# Altium footprint library Crazy_PCB.PcbLib: 126 footprints (part 4 of 8)
Each footprint in its own frame and in the unit in brackets; x right, y up, seen from the top. Pads: shape width x height; smd on the part's side, far side on the other; paste and mask are expansions set on the pad; w line width, h text height; cw(c..) or ccw(c..) is an arc to the next point about the centre after c.
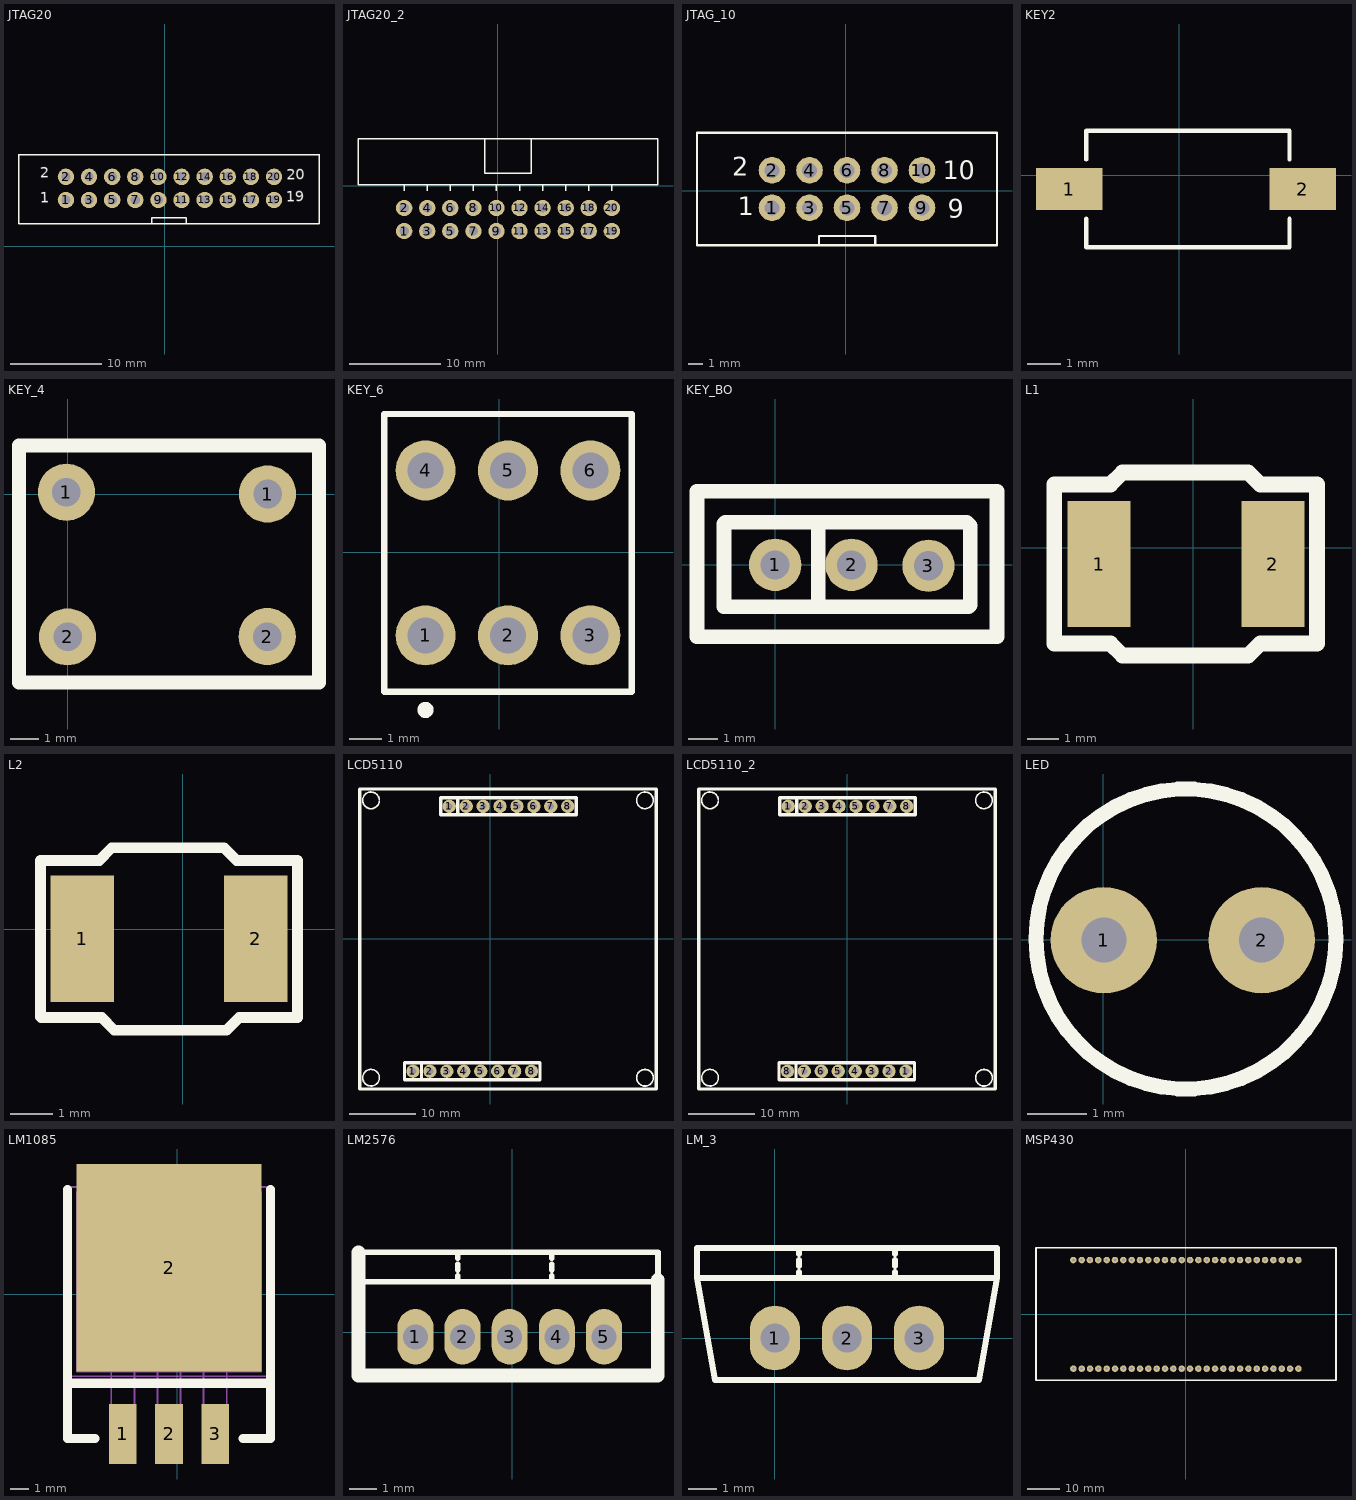
[diagram p3: the footprints below, top view; thin cyan lines are the x and y axes]

## JTAG20 [mm]
pads (20):
  round 1.8 hole 1.016: 1(-10.877,5.106) 2(-10.877,7.646) 3(-8.337,5.106) 4(-8.337,7.646) 5(-5.797,5.106) 6(-5.797,7.646) 7(-3.257,5.106) 8(-3.257,7.646) 9(-0.717,5.106) 10(-0.717,7.646) 11(1.823,5.106) 12(1.823,7.646) 13(4.363,5.106) 14(4.363,7.646) 15(6.903,5.106) 16(6.903,7.646) 17(9.443,5.106) 18(9.443,7.646) 19(11.983,5.106) 20(11.983,7.646)
Top Overlay:
  lines w0.152: -16.03,10.12 -16.03,2.5 16.92,2.5 16.92,10.12 ; -16.017,10.096 16.9,10.096 ; -1.445,2.5 -1.445,3.135 2.365,3.135 2.365,2.5
  text "1" at -13.71,4.44 h2
  text "2" at -13.68,7.18 h2
  text "19" at 13.34,4.53 h2
  text "20" at 13.36,6.95 h2

## JTAG20_2 [mm]
pads (20):
  round 1.8 hole 1.016: 1(-10.327,-5.014) 2(-10.327,-2.474) 3(-7.787,-5.014) 4(-7.787,-2.474) 5(-5.247,-5.014) 6(-5.247,-2.474) 7(-2.707,-5.014) 8(-2.707,-2.474) 9(-0.167,-5.014) 10(-0.167,-2.474) 11(2.373,-5.014) 12(2.373,-2.474) 13(4.913,-5.014) 14(4.913,-2.474) 15(7.453,-5.014) 16(7.453,-2.474) 17(9.993,-5.014) 18(9.993,-2.474) 19(12.533,-5.014) 20(12.533,-2.474)
Top Overlay:
  lines w0.152: -10.327,-0.569 -10.327,0.066 ; -7.787,-0.569 -7.787,0.066 ; -5.247,-0.569 -5.247,0.066 ; -2.707,-0.569 -2.707,0.066 ; -1.437,5.146 -1.437,1.336 3.643,1.336 3.643,5.146 ; -0.167,-0.569 -0.167,0.066 ; 2.373,-0.569 2.373,0.066 ; 4.913,-0.569 4.913,0.066 ; 7.453,-0.569 7.453,0.066 ; 9.993,-0.569 9.993,0.066 ; 12.533,-0.569 12.533,0.066 ; -15.407,0.066 17.613,0.066 17.613,5.146 -15.407,5.146 -15.407,0.066

## JTAG_10 [mm]
pads (10):
  round 1.8 hole 1.016: 1(-4.99,-1.16) 2(-4.99,1.38) 3(-2.45,-1.16) 4(-2.45,1.38) 5(0.09,-1.16) 6(0.09,1.38) 7(2.63,-1.16) 8(2.63,1.38) 9(5.17,-1.16) 10(5.17,1.38)
Top Overlay:
  lines w0.152: -1.815,-3.7 -1.815,-3.065 1.995,-3.065 1.995,-3.7 ; -10.07,-3.7 -10.07,3.92 10.25,3.92 10.25,-3.7 -10.07,-3.7
  text "2" at -7.67,1.01 h1.27
  text "1" at -7.32,-1.68 h1.27
  text "9" at 6.91,-1.84 h1.27
  text "10" at 6.59,0.77 h1.27

## KEY2 [mm]
pads (2):
  rect 2x1.254 smd: 1(-3.291,-0.41) 2(3.709,-0.41)
Top Overlay:
  lines w0.127: -2.783,-1.301 -2.783,-2.16 3.313,-2.16 3.313,-1.301 ; -2.783,0.477 -2.783,1.34 3.313,1.34 3.313,0.477

## KEY_4 [mm]
pads (4):
  round 2 hole 1: 1(-0.04,0.06) 1(7,0) 2(0,-5) 2(6.99,-4.99)
Top Overlay:
  lines w0.5: 8.8,1.7 8.8,-6.6 -1.7,-6.6 -1.7,1.7 8.8,1.7 ; 8.8,1.7 8.8,1.5 8.8,1.7

## KEY_6 [mm]
pads (6):
  round 1.85 hole 1.1: 1(-2.273,-2.556) 2(0.267,-2.556) 3(2.807,-2.556) 4(-2.273,2.524) 5(0.267,2.524) 6(2.807,2.524)
Top Overlay:
  circle w0.25: c-2.274,-4.852 r0.125
  lines w0.2: -3.543,-4.296 4.077,-4.296 4.077,4.264 -3.543,4.264 -3.543,-4.296

## KEY_BO [mm] "one of two"
pads (3):
  round 1.8 hole 1: 1(0,0) 2(2.63,0) 3(5.28,-0.03)
Top Overlay:
  lines w0.5: -1.76,-1.44 -1.76,1.42 -1.71,1.47 6.6,1.47 6.72,1.35 6.72,-1.39 6.67,-1.44 -1.73,-1.44 ; 1.48,-1.44 1.48,1.45 ; -2.69,-2.48 -2.69,2.54 7.64,2.54 7.64,-2.48 -2.69,-2.48

## L1 [mm]
pads (2):
  rect 2x4 smd: 1(-2.98,-0.52) 2(2.52,-0.52)
Top Overlay:
  lines w0.5: -4.402,-3.035 -2.624,-3.035 -2.243,-3.416 1.744,-3.416 2.125,-3.035 3.921,-3.035 3.921,-0.52 3.921,1.995 2.125,1.995 1.744,2.376 -2.243,2.376 -2.624,1.995 -4.402,1.995 -4.402,-3.035

## L2 [mm]
pads (2):
  rect 1.5x3 smd: 1(-2.38,-0.22) 2(1.73,-0.22)
Top Overlay:
  lines w0.254: -3.37,-2.07 -3.37,1.63 -1.98,1.63 -1.68,1.93 0.98,1.93 1.28,1.63 2.72,1.63 2.72,-2.09 1.34,-2.09 1.04,-2.39 -1.62,-2.39 -1.92,-2.09 -3.35,-2.09

## LCD5110 [mm]
pads (16):
  round 2 hole 1: 1(-11.608,-19.871) 1(-6.172,19.871) 2(-9.068,-19.871) 2(-3.632,19.871) 3(-6.528,-19.871) 3(-1.092,19.871) 4(-3.988,-19.871) 4(1.448,19.871) 5(-1.448,-19.871) 5(3.988,19.871) 6(1.092,-19.871) 6(6.528,19.871) 7(3.632,-19.871) 7(9.068,19.871) 8(6.172,-19.871) 8(11.608,19.871)
Top Overlay:
  lines w0.254: -17.908,-19.588 ccw(c-17.908,-20.838) -17.79,-19.594 ; -16.664,20.652 cw(c-17.908,20.771) -16.658,20.771 ; 21.943,-20.838 ccw(c23.193,-20.838) 21.948,-20.719 ; 23.074,19.527 cw(c23.193,20.771) 23.193,19.521
  lines w0.5: -19.608,22.369 -19.608,-22.529 24.892,-22.529 24.892,22.471 -19.608,22.471 ; -10.338,-21.141 -10.338,-18.601 ; -4.902,18.601 -4.902,21.141 ; -12.878,-21.141 -12.878,-18.601 7.442,-18.601 7.442,-21.141 -12.878,-21.141 ; -7.442,18.601 -7.442,21.141 12.878,21.141 12.878,18.601 -7.442,18.601

## LCD5110_2 [mm]
pads (16):
  round 2 hole 1: 1(-8.832,19.871) 1(8.832,-19.871) 2(-6.292,19.871) 2(6.292,-19.871) 3(-3.752,19.871) 3(3.752,-19.871) 4(-1.212,19.871) 4(1.212,-19.871) 5(-1.328,-19.871) 5(1.328,19.871) 6(-3.868,-19.871) 6(3.868,19.871) 7(-6.408,-19.871) 7(6.408,19.871) 8(-8.948,-19.871) 8(8.948,19.871)
Top Overlay:
  lines w0.254: -20.568,-19.588 ccw(c-20.568,-20.838) -20.45,-19.594 ; -19.324,20.652 cw(c-20.568,20.771) -19.318,20.771 ; 19.283,-20.838 ccw(c20.533,-20.838) 19.288,-20.719 ; 20.414,19.527 cw(c20.533,20.771) 20.533,19.521
  lines w0.5: -22.268,22.369 -22.268,-22.529 22.232,-22.529 22.232,22.471 -22.268,22.471 ; -7.678,-21.141 -7.678,-18.601 ; -7.562,18.601 -7.562,21.141 ; -10.218,-21.141 10.102,-21.141 10.102,-18.601 -10.218,-18.601 -10.218,-21.141 ; -10.102,18.601 10.218,18.601 10.218,21.141 -10.102,21.141 -10.102,18.601

## LED [mm]
pads (2):
  round 1.8 hole 0.762: 1(0.01,-0.01) 2(2.68,-0.01)
Top Overlay:
  circle w0.254: c1.4,0.01 r2.539

## LM1085 [mil]
pads (4):
  rect 60x130 smd: 1(-117.72,-303.23) 2(-17.72,-303.23) 3(82.28,-303.23)
  rect 400x450 smd: 2(-17.72,56.77)
Top Overlay:
  lines w19.68: -237.72,226.77 -237.72,-193.23 ; -177.72,-313.23 -237.72,-313.23 -237.72,-193.23 ; 142.28,-313.23 202.28,-313.23 202.28,-193.23 ; 202.28,226.77 202.28,-193.23 ; -237.72,-193.23 202.28,-193.23
Mechanical 2:
  lines w4: -217.72,161.77 182.28,161.77 ; -142.72,-168.23 -142.72,-308.23 -92.72,-308.23 -92.72,-168.23 ; -117.72,161.77 -117.72,-88.23 82.28,-88.23 82.28,161.77 ; -42.72,-168.23 -42.72,-308.23 7.28,-308.23 7.28,-168.23 ; 57.28,-168.23 57.28,-308.23 107.28,-308.23 107.28,-168.23 ; -217.72,-168.23 182.28,-168.23 182.28,221.77 -217.72,221.77 -217.72,-168.23
Mechanical 3:
  rectangle: -137.72,-343.23 -97.72,-258.23
  rectangle: 62.28,-343.23 102.28,-258.23
  rectangle: -37.72,-343.23 2.28,-258.23
  lines w4: -232.72,-178.23 197.28,-178.23 197.28,231.77 -232.72,231.77 -232.72,-178.23

## LM2576 [mm]
pads (5):
  oval 1.3x2 hole 0.9: 1(-3.49,-0.16) 2(-1.79,-0.16) 3(-0.09,-0.16) 4(1.61,-0.16) 5(3.31,-0.16)
Top Overlay:
  lines w0.2: -1.963,1.827 -1.963,2.038 ; -1.963,2.25 -1.963,2.462 ; -1.963,2.673 -1.963,2.885 ; 1.423,1.827 1.423,2.038 ; 1.423,2.25 1.423,2.462 ; 1.423,2.673 1.423,2.885 ; -5.562,1.827 -5.562,2.885 5.26,2.885 5.26,1.827 -5.562,1.827
  lines w0.5: -5.55,2.88 -5.55,-1.56 5.25,-1.56 5.25,1.9

## LM_3 [mil]
pads (3):
  oval 70x90 hole 40: 1(0,0) 2(100,0) 3(200,0)
Top Overlay:
  lines w7.87: 33.33,83.33 33.33,91.67 ; 33.33,100 33.33,108.33 ; 33.33,116.67 33.33,125 ; 166.67,83.33 166.67,91.67 ; 166.67,100 166.67,108.33 ; 166.67,116.67 166.67,125 ; -108.33,83.33 -108.33,125 308.33,125 308.33,83.33 ; -108.33,83.33 -83.33,-58.33 283.33,-58.33 308.33,83.33 ; -108.33,83.33 308.33,83.33

## MSP430 [mm]
height 0.6
pads (56):
  round 2 hole 0.9: 0(-34.295,-16.561) 1(-31.755,-16.561) 2(-29.215,-16.561) 3(-26.675,-16.561) 4(-24.141,-16.561) 5(-21.601,-16.561) 6(-19.061,-16.561) 7(-16.521,-16.561) 8(-13.981,-16.561) 9(-11.441,-16.561) 10(-8.901,-16.561) 11(-6.361,-16.561) 12(-3.819,-16.561) 13(-1.279,-16.561) 14(1.261,-16.561) 15(3.801,-16.561) 16(6.341,-16.561) 17(8.881,-16.561) 18(11.421,-16.561) 19(13.961,-16.561) 20(16.526,-16.561) 21(19.066,-16.561) 22(21.606,-16.561) 23(24.146,-16.561) 24(26.686,-16.561) 25(29.226,-16.561) 26(31.766,-16.561) 27(34.306,-16.561) 28(34.294,16.561) 29(31.754,16.561) 30(29.214,16.561) 31(26.674,16.561) 32(24.134,16.561) 33(21.594,16.561) 34(19.054,16.561) 35(16.514,16.561) 36(13.983,16.561) 37(11.443,16.561) 38(8.903,16.561) 39(6.363,16.561) 40(3.823,16.561) 41(1.283,16.561) 42(-1.257,16.561) 43(-3.797,16.561) 44(-6.373,16.561) 45(-8.913,16.561) 46(-11.453,16.561) 47(-13.993,16.561) 48(-16.533,16.561) 49(-19.073,16.561) 50(-21.613,16.561) 51(-24.153,16.561) 52(-26.711,16.561) 53(-29.251,16.561) 54(-31.766,16.561) 55(-34.306,16.561)
Top Overlay:
  lines w0.5: -45.69,-20.082 45.76,-20.066 45.76,20.305 -45.69,20.305 -45.69,-20.082